# EAGLE library part TC75W57 (library infnoise)
Dual comparator
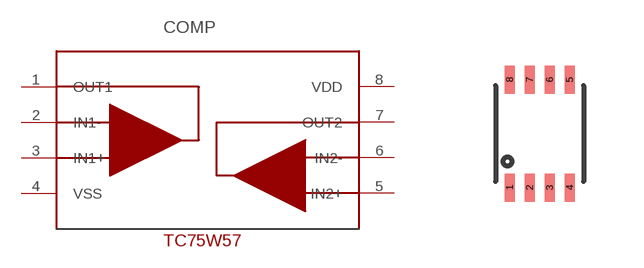
[diagram p2: symbol with the pads of SSOP8-P-0.50A; footprint SSOP8-P-0.50A]

Designator prefix COMP

## TC75W57FK  [SSOP8-P-0.50A]
1  OUT1
2  IN1-
3  IN1+
4  VSS
5  IN2+
6  IN2-
7  OUT2
8  VDD

## Footprint SSOP8-P-0.50A (pad centres in mm)
smd 0.25 x 0.7: 1 -0.75,-1.35; 2 -0.25,-1.35; 3 0.25,-1.35; 4 0.75,-1.35; 5 0.75,1.35; 6 0.25,1.35; 7 -0.25,1.35; 8 -0.75,1.35